# Altium footprint library SN74HC125D.PcbLib: 1 footprints
Each footprint in its own frame and in the unit in brackets; x right, y up, seen from the top. Pads: shape width x height; smd on the part's side, far side on the other; paste and mask are expansions set on the pad; w line width, h text height; cw(c..) or ccw(c..) is an arc to the next point about the centre after c.
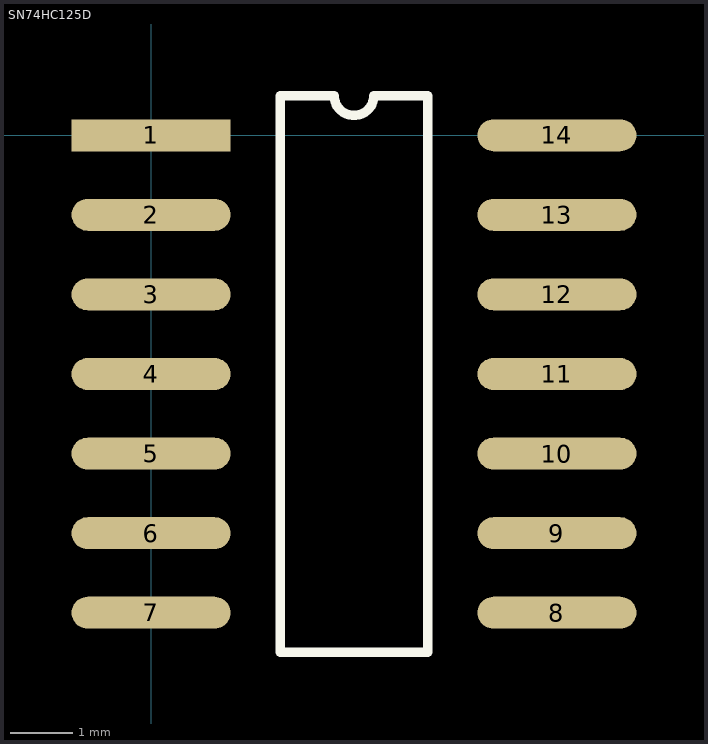
[diagram p0: the footprint, top view; thin cyan lines are the x and y axes]

## SN74HC125D [mil]
pads (14):
  rect 100x20 smd: 1(0,0)
  oval 100x20 smd: 2(0,-50) 3(0,-100) 4(0,-150) 5(0,-200) 6(0,-250) 7(0,-300) 8(255,-300) 9(255,-250) 10(255,-200) 11(255,-150) 12(255,-100) 13(255,-50) 14(255,0)
Top Overlay:
  lines w6: 81,-325 174,-325 174,25 140,25 cw(c127.5,25) 115,25 81,25 81,-325